# Altium footprint library Switches.PcbLib: 1 footprints
Each footprint in its own frame and in the unit in brackets; x right, y up, seen from the top. Pads: shape width x height; smd on the part's side, far side on the other; paste and mask are expansions set on the pad; w line width, h text height; cw(c..) or ccw(c..) is an arc to the next point about the centre after c.
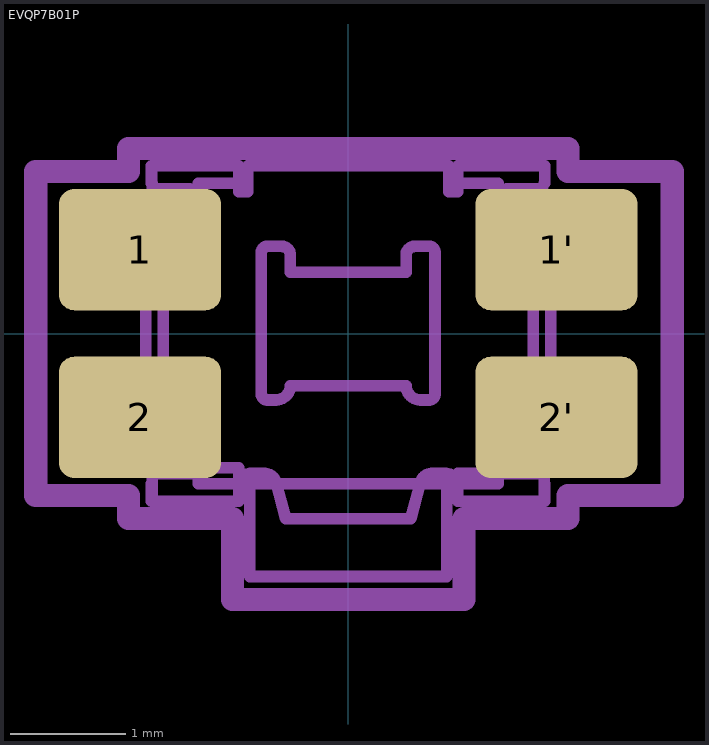
[diagram p0: the footprint, top view; thin cyan lines are the x and y axes]

## EVQP7B01P [mm] "Switch Tactile N.O. SPST Rectangular Button J-Bend 0.05A 12VDC 2.2N SMD T/R"
pads (4):
  rrect25% 1.4x1.05 smd: 1(-1.8,0.725) 1'(1.8,0.725) 2(-1.8,-0.725) 2'(1.8,-0.725)
Mechanical 13:
  drawing of 156 lines, arcs and shapes, not listed
Mechanical 15:
  lines w0.2: -2.7,-1.4 -1.9,-1.4 -1.9,-1.6 -1,-1.6 -1,-2.3 1,-2.3 1,-1.6 1.9,-1.6 1.9,-1.4 2.8,-1.4 2.8,1.4 1.9,1.4 1.9,1.6 -1.9,1.6 -1.9,1.4 -2.7,1.4 -2.7,-1.4
3D body "step_temp.STEP": height 1.35, standoff -0.5, extent -2.35,-2.1 2.35,1.45